# Altium schematic symbol library Resistor - Surface Mount - 0201.SchLib: 301 symbols (part 2 of 5)
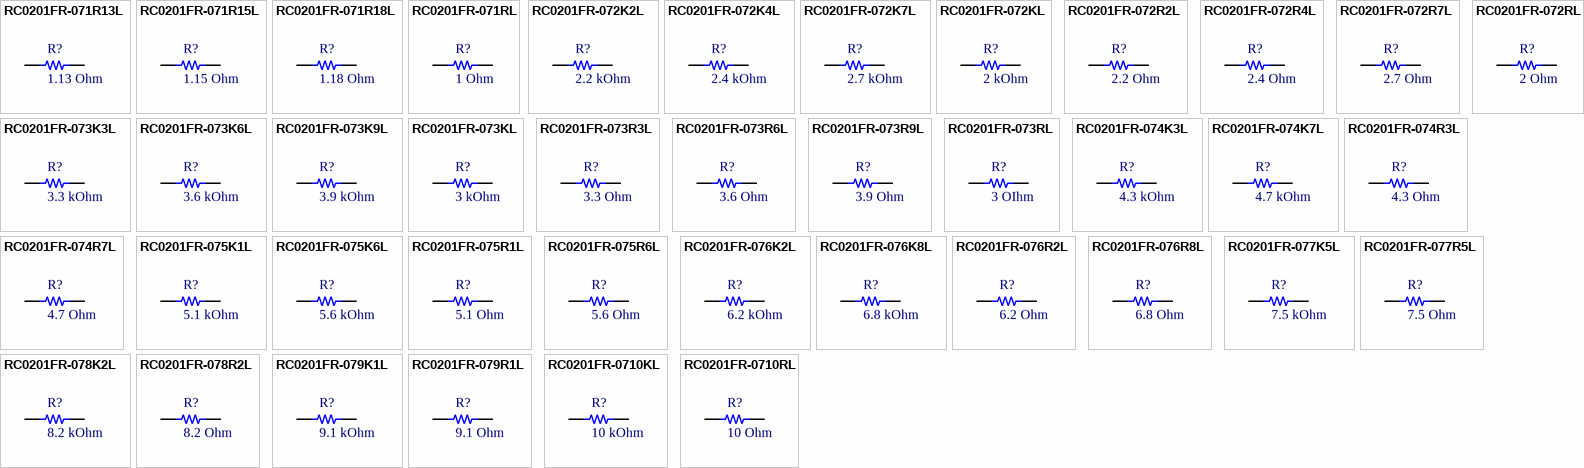
[diagram p8: symbols RC0201FR-071R13L to RC0201FR-0710RL]

## RC0201FR-071RL
designator R?, comment 1 Ohm
RES 1 OHM 1% 1/20W 0201; Manufacturer: Yageo; Part Number: RC0201FR-071RL; Power (Watt): 50mW; Value: 1 Ohm; Package: 0201 (0603 Metric); Tolerance: ±1%; Operating Temperature: -55℃~+125℃; ComponentLink1Description: Datasheet; ComponentLink1URL: https://www.yageo.com/upload/media/product/products/datasheet/rchip/PYu-RC_Group_51_RoHS_L_12.pdf; ComponentLink2Description: Digikey link; ComponentLink2URL: https://www.digikey.com/en/products/detail/yageo/RC0201FR-071RL/5917066?s=N4IgTCBcDaIEoGEAMYkEYBicC0SDsacAMiALoC%2BQA; ComponentLink3Description: LCSC link; ComponentLink3URL: https://lcsc.com/product-detail/Chip-Resistor-Surface-Mount_YAGEO-RC0201FR-071RL_C469665.html?s_z=n_1R%25200201%2520resistor%2520yageo; Supplier 1: Digikey; Supplier Part Number 1: YAG3368CT-ND
footprint R0201
footprint R0201
pins: 1, 2

## RC0201FR-072K2L
designator R?, comment 2.2 kOhm
RES 2.2K OHM 1% 1/20W 0201; Manufacturer: Yageo; Part Number: RC0201FR-072K2L; Power (Watt): 0.05W; ComponentLink1Description: Datasheet; ComponentLink1URL: https://www.yageo.com/upload/media/product/products/datasheet/rchip/PYu-RC_Group_51_RoHS_L_12.pdf; ComponentLink2Description: Digikey link; ComponentLink2URL: https://www.digikey.com/en/products/detail/yageo/RC0201FR-072K2L/5280432; ComponentLink3Description: LCSC link; ComponentLink3URL: https://lcsc.com/product-detail/Chip-Resistor-Surface-Mount_YAGEO-RC0201FR-072K2L_C142018.html?s_z=n_RC0201FR-072K2L; Value: 2.2 kOhm; Package: 0201 (0603 Metric); Tolerance: ±1%; Operating Temperature: -55°C ~ 125°C; Supplier 1: Future Electronics; Supplier Part Number 1: 3937737
footprint R0201
pins: 1, 2

## RC0201FR-072K4L
designator R?, comment 2.4 kOhm
RES 2.4K OHM 1% 1/20W 0201; Manufacturer: Yageo; Part Number: RC0201FR-072K4L; Power (Watt): 0.05W; ComponentLink1Description: Datasheet; ComponentLink1URL: https://www.yageo.com/upload/media/product/products/datasheet/rchip/PYu-RC_Group_51_RoHS_L_12.pdf; ComponentLink2Description: Digikey link; ComponentLink2URL: https://www.digikey.com/en/products/detail/yageo/RC0201FR-072K4L/5280436; ComponentLink3Description: LCSC link; ComponentLink3URL: https://lcsc.com/product-detail/Chip-Resistor-Surface-Mount_YAGEO-RC0201FR-072K4L_C155738.html?s_z=n_RC0201FR-072K4L; Value: 2.4 kOhm; Package: 0201 (0603 Metric); Tolerance: ±1%; Operating Temperature: -55°C ~ 125°C; Supplier 1: Digikey; Supplier Part Number 1: YAG2576CT-ND
footprint R0201
pins: 1, 2

## RC0201FR-072K7L
designator R?, comment 2.7 kOhm
RES 2.7K OHM 1% 1/20W 0201; Manufacturer: Yageo; Part Number: RC0201FR-072K7L; Power (Watt): 0.05W; ComponentLink1Description: Datasheet; ComponentLink1URL: https://www.yageo.com/upload/media/product/products/datasheet/rchip/PYu-RC_Group_51_RoHS_L_12.pdf; ComponentLink2Description: Digikey link; ComponentLink2URL: https://www.digikey.com/en/products/detail/yageo/RC0201FR-072K7L/5280441; ComponentLink3Description: LCSC link; ComponentLink3URL: https://lcsc.com/product-detail/Chip-Resistor-Surface-Mount_YAGEO-RC0201FR-072K7L_C273271.html?s_z=n_RC0201FR-072K7L; Value: 2.7 kOhm; Package: 0201 (0603 Metric); Tolerance: ±1%; Operating Temperature: -55°C ~ 125°C; Supplier 1: Digikey; Supplier Part Number 1: YAG2581CT-ND
footprint R0201
pins: 1, 2

## RC0201FR-072KL
designator R?, comment 2 kOhm
RES 2K OHM 1% 1/20W 0201; Manufacturer: Yageo; Part Number: RC0201FR-072KL; Power (Watt): 0.05W; ComponentLink1Description: Datasheet; ComponentLink1URL: https://www.yageo.com/upload/media/product/products/datasheet/rchip/PYu-RC_Group_51_RoHS_L_12.pdf; ComponentLink2Description: Digikey link; ComponentLink2URL: https://www.digikey.com/en/products/detail/yageo/RC0201FR-072KL/3202400; ComponentLink3Description: LCSC link; ComponentLink3URL: https://lcsc.com/product-detail/Chip-Resistor-Surface-Mount_YAGEO-RC0201FR-072KL_C327392.html?s_z=n_RC0201FR-072KL; Value: 2 kOhm; Package: 0201 (0603 Metric); Tolerance: ±1%; Operating Temperature: -55°C ~ 125°C; Supplier 1: Future Electronics; Supplier Part Number 1: 7667397
footprint R0201
pins: 1, 2

## RC0201FR-072R2L
designator R?, comment 2.2 Ohm
RES 2.2 OHM 1% 1/20W 0201; Manufacturer: Yageo; Part Number: RC0201FR-072R2L; Power (Watt): 0.05W; ComponentLink1Description: Datasheet; ComponentLink1URL: https://www.yageo.com/upload/media/product/products/datasheet/rchip/PYu-RC_Group_51_RoHS_L_12.pdf; ComponentLink2Description: Digikey link; ComponentLink2URL: https://www.digikey.com/en/products/detail/yageo/RC0201FR-072R2L/5917076; ComponentLink3Description: LCSC link; ComponentLink3URL: https://lcsc.com/product-detail/Chip-Resistor-Surface-Mount_YAGEO-RC0201FR-072R2L_C138154.html?s_z=n_RC0201FR-072R2L; Value: 2.2 Ohm; Package: 0201 (0603 Metric); Tolerance: ±1%; Operating Temperature: -55°C ~ 125°C; Supplier 1: Future Electronics; Supplier Part Number 1: 2107899
footprint R0201
pins: 1, 2

## RC0201FR-072R4L
designator R?, comment 2.4 Ohm
RES 2.4 OHM 1% 1/20W 0201; Manufacturer: Yageo; Part Number: RC0201FR-072R4L; Power (Watt): 0.05W; ComponentLink1Description: Datasheet; ComponentLink1URL: https://www.yageo.com/upload/media/product/products/datasheet/rchip/PYu-RC_Group_51_RoHS_L_12.pdf; ComponentLink2Description: Digikey link; ComponentLink2URL: https://www.digikey.com/en/products/detail/yageo/RC0201FR-072R4L/5917077; ComponentLink3Description: LCSC link; ComponentLink3URL: *; Value: 2.4 Ohm; Package: 0201 (0603 Metric); Tolerance: ±1%; Operating Temperature: -55°C ~ 125°C; Supplier 1: Digikey; Supplier Part Number 1: RC0201FR-072R4L-ND
footprint R0201
pins: 1, 2

## RC0201FR-072R7L
designator R?, comment 2.7 Ohm
RES 2.7 OHM 1% 1/20W 0201; Manufacturer: Yageo; Part Number: RC0201FR-072R7L; Power (Watt): 0.05W; ComponentLink1Description: Datasheet; ComponentLink1URL: https://www.yageo.com/upload/media/product/products/datasheet/rchip/PYu-RC_Group_51_RoHS_L_12.pdf; ComponentLink2Description: Digikey link; ComponentLink2URL: https://www.digikey.com/en/products/detail/yageo/RC0201FR-072R7L/5917079; ComponentLink3Description: LCSC link; ComponentLink3URL: https://lcsc.com/product-detail/Chip-Resistor-Surface-Mount_YAGEO-RC0201FR-072R7L_C474594.html?s_z=n_RC0201FR-072R7L; Value: 2.7 Ohm; Package: 0201 (0603 Metric); Tolerance: ±1%; Operating Temperature: -55°C ~ 125°C; Supplier 1: Digikey; Supplier Part Number 1: 13-RC0201FR-072R7LCT-ND
footprint R0201
pins: 1, 2

## RC0201FR-072RL
designator R?, comment 2 Ohm
RES 2 OHM 1% 1/20W 0201; Manufacturer: Yageo; Part Number: RC0201FR-072RL; Power (Watt): 0.05W; ComponentLink1Description: Datasheet; ComponentLink1URL: https://www.yageo.com/upload/media/product/products/datasheet/rchip/PYu-RC_Group_51_RoHS_L_12.pdf; ComponentLink2Description: Digikey link; ComponentLink2URL: https://www.digikey.com/en/products/detail/yageo/RC0201FR-072RL/5917080; ComponentLink3Description: LCSC link; ComponentLink3URL: https://lcsc.com/product-detail/Chip-Resistor-Surface-Mount_YAGEO-RC0201FR-072RL_C327197.html?s_z=n_RC0201FR-072RL; Value: 2 Ohm; Package: 0201 (0603 Metric); Tolerance: ±1%; Operating Temperature: -55°C ~ 125°C; Supplier 1: Avnet; Supplier Part Number 1: 49AK1024
footprint R0201
pins: 1, 2

## RC0201FR-073K3L
designator R?, comment 3.3 kOhm
RES 3.3K OHM 1% 1/20W 0201; Manufacturer: Yageo; Part Number: RC0201FR-073K3L; Power (Watt): 0.05W; ComponentLink1Description: Datasheet; ComponentLink1URL: https://www.yageo.com/upload/media/product/products/datasheet/rchip/PYu-RC_Group_51_RoHS_L_12.pdf; ComponentLink2Description: Digikey link; ComponentLink2URL: https://www.digikey.com/en/products/detail/yageo/RC0201FR-073K3L/3202407; ComponentLink3Description: LCSC link; ComponentLink3URL: https://lcsc.com/product-detail/Chip-Resistor-Surface-Mount_YAGEO-RC0201FR-073K3L_C274874.html?s_z=n_RC0201FR-073K3L; Value: 3.3 kOhm; Package: 0201 (0603 Metric); Tolerance: ±1%; Operating Temperature: -55°C ~ 125°C; Supplier 1: Digikey; Supplier Part Number 1: YAG2285CT-ND
footprint R0201
pins: 1, 2

## RC0201FR-073K6L
designator R?, comment 3.6 kOhm
RES 3.6K OHM 1% 1/20W 0201; Manufacturer: Yageo; Part Number: RC0201FR-073K6L; Power (Watt): 0.05W; ComponentLink1Description: Datasheet; ComponentLink1URL: https://www.yageo.com/upload/media/product/products/datasheet/rchip/PYu-RC_Group_51_RoHS_L_12.pdf; ComponentLink2Description: Digikey link; ComponentLink2URL: https://www.digikey.com/en/products/detail/yageo/RC0201FR-073K6L/5280511; ComponentLink3Description: LCSC link; ComponentLink3URL: https://lcsc.com/product-detail/Chip-Resistor-Surface-Mount_YAGEO-RC0201FR-073K6L_C327389.html?s_z=n_RC0201FR-073K6L; Value: 3.6 kOhm; Package: 0201 (0603 Metric); Tolerance: ±1%; Operating Temperature: -55°C ~ 125°C; Supplier 1: Digikey; Supplier Part Number 1: YAG2651CT-ND
footprint R0201
pins: 1, 2

## RC0201FR-073K9L
designator R?, comment 3.9 kOhm
RES 3.9K OHM 1% 1/20W 0201; Manufacturer: Yageo; Part Number: RC0201FR-073K9L; Power (Watt): 0.05W; ComponentLink1Description: Datasheet; ComponentLink1URL: https://www.yageo.com/upload/media/product/products/datasheet/rchip/PYu-RC_Group_51_RoHS_L_12.pdf; ComponentLink2Description: Digikey link; ComponentLink2URL: https://www.digikey.com/en/products/detail/yageo/RC0201FR-073K9L/5280515; ComponentLink3Description: LCSC link; ComponentLink3URL: https://lcsc.com/product-detail/Chip-Resistor-Surface-Mount_YAGEO-RC0201FR-073K9L_C273280.html?s_z=n_RC0201FR-073K9L; Value: 3.9 kOhm; Package: 0201 (0603 Metric); Tolerance: ±1%; Operating Temperature: -55°C ~ 125°C; Supplier 1: Future Electronics; Supplier Part Number 1: 8391229
footprint R0201
pins: 1, 2

## RC0201FR-073KL
designator R?, comment 3 kOhm
RES 3K OHM 1% 1/20W 0201; Manufacturer: Yageo; Part Number: RC0201FR-073KL; Power (Watt): 0.05W; ComponentLink1Description: Datasheet; ComponentLink1URL: https://www.yageo.com/upload/media/product/products/datasheet/rchip/PYu-RC_Group_51_RoHS_L_12.pdf; ComponentLink2Description: Digikey link; ComponentLink2URL: https://www.digikey.com/en/products/detail/yageo/RC0201FR-073KL/5280516; ComponentLink3Description: LCSC link; ComponentLink3URL: https://lcsc.com/product-detail/Chip-Resistor-Surface-Mount_YAGEO-RC0201FR-073KL_C142016.html?s_z=n_RC0201FR-073KL; Value: 3 kOhm; Package: 0201 (0603 Metric); Tolerance: ±1%; Operating Temperature: -55°C ~ 125°C; Supplier 1: Digikey; Supplier Part Number 1: YAG2656CT-ND
footprint R0201
pins: 1, 2

## RC0201FR-073R3L
designator R?, comment 3.3 Ohm
RES 3.3 OHM 1% 1/20W 0201; Manufacturer: Yageo; Part Number: RC0201FR-073R3L; Power (Watt): 0.05W; ComponentLink1Description: Datasheet; ComponentLink1URL: https://www.yageo.com/upload/media/product/products/datasheet/rchip/PYu-RC_Group_51_RoHS_L_12.pdf; ComponentLink2Description: Digikey link; ComponentLink2URL: https://www.digikey.com/en/products/detail/yageo/RC0201FR-073R3L/5917089; ComponentLink3Description: LCSC link; ComponentLink3URL: https://lcsc.com/product-detail/Chip-Resistor-Surface-Mount_YAGEO-RC0201FR-073R3L_C474657.html?s_z=n_RC0201FR-073R3L; Value: 3.3 Ohm; Package: 0201 (0603 Metric); Tolerance: ±1%; Operating Temperature: -55°C ~ 125°C; Supplier 1: Digikey; Supplier Part Number 1: 13-RC0201FR-073R3LCT-ND
footprint R0201
pins: 1, 2

## RC0201FR-073R6L
designator R?, comment 3.6 Ohm
RES 3.6 OHM 1% 1/20W 0201; Manufacturer: Yageo; Part Number: RC0201FR-073R6L; Power (Watt): 0.05W; ComponentLink1Description: Datasheet; ComponentLink1URL: https://www.yageo.com/upload/media/product/products/datasheet/rchip/PYu-RC_Group_51_RoHS_L_12.pdf; ComponentLink2Description: Digikey link; ComponentLink2URL: https://www.digikey.com/en/products/detail/yageo/RC0201FR-073R6L/5917090; ComponentLink3Description: LCSC link; ComponentLink3URL: https://lcsc.com/product-detail/Chip-Resistor-Surface-Mount_YAGEO-RC0201FR-073R6L_C474663.html?s_z=n_RC0201FR-073R6L; Value: 3.6 Ohm; Package: 0201 (0603 Metric); Tolerance: ±1%; Operating Temperature: -55°C ~ 125°C; Supplier 1: Digikey; Supplier Part Number 1: RC0201FR-073R6L-ND
footprint R0201
pins: 1, 2

## RC0201FR-073R9L
designator R?, comment 3.9 Ohm
RES 3.9 OHM 1% 1/20W 0201; Manufacturer: Yageo; Part Number: RC0201FR-073R9L; Power (Watt): 0.05W; ComponentLink1Description: Datasheet; ComponentLink1URL: https://www.yageo.com/upload/media/product/products/datasheet/rchip/PYu-RC_Group_51_RoHS_L_12.pdf; ComponentLink2Description: Digikey link; ComponentLink2URL: https://www.digikey.com/en/products/detail/yageo/RC0201FR-073R9L/5917092; ComponentLink3Description: LCSC link; ComponentLink3URL: https://lcsc.com/product-detail/Chip-Resistor-Surface-Mount_YAGEO-RC0201FR-073R9L_C474419.html?s_z=n_RC0201FR-073R9L; Value: 3.9 Ohm; Package: 0201 (0603 Metric); Tolerance: ±1%; Operating Temperature: -55°C ~ 125°C; Supplier 1: Future Electronics; Supplier Part Number 1: 8132538
footprint R0201
pins: 1, 2

## RC0201FR-073RL
designator R?, comment 3 OIhm
RES 3 OHM 1% 1/20W 0201; Manufacturer: Yageo; Part Number: RC0201FR-073RL; Power (Watt): 0.05W; ComponentLink1Description: Datasheet; ComponentLink1URL: https://www.yageo.com/upload/media/product/products/datasheet/rchip/PYu-RC_Group_51_RoHS_L_12.pdf; ComponentLink2Description: Digikey link; ComponentLink2URL: https://www.digikey.com/en/products/detail/yageo/RC0201FR-073RL/5917093; ComponentLink3Description: LCSC link; ComponentLink3URL: https://lcsc.com/product-detail/Chip-Resistor-Surface-Mount_YAGEO-RC0201FR-073RL_C309536.html?s_z=n_RC0201FR-073RL; Value: 3 OIhm; Package: 0201 (0603 Metric); Tolerance: ±1%; Operating Temperature: -55°C ~ 125°C; Supplier 1: Digikey; Supplier Part Number 1: 13-RC0201FR-073RLCT-ND
footprint R0201
pins: 1, 2

## RC0201FR-074K3L
designator R?, comment 4.3 kOhm
RES 4.3K OHM 1% 1/20W 0201; Manufacturer: Yageo; Part Number: RC0201FR-074K3L; Power (Watt): 0.05W; ComponentLink1Description: Datasheet; ComponentLink1URL: https://www.yageo.com/upload/media/product/products/datasheet/rchip/PYu-RC_Group_51_RoHS_L_12.pdf; ComponentLink2Description: Digikey link; ComponentLink2URL: https://www.digikey.com/en/products/detail/yageo/RC0201FR-074K3L/5280566; ComponentLink3Description: LCSC link; ComponentLink3URL: https://lcsc.com/product-detail/Chip-Resistor-Surface-Mount_YAGEO-RC0201FR-074K3L_C295804.html?s_z=n_RC0201FR-074K3L; Value: 4.3 kOhm; Package: 0201 (0603 Metric); Tolerance: ±1%; Operating Temperature: -55°C ~ 125°C; Supplier 1: Future Electronics; Supplier Part Number 1: 9069571
footprint R0201
pins: 1, 2

## RC0201FR-074K7L
designator R?, comment 4.7 kOhm
RES 4.7K OHM 1% 1/20W 0201; Manufacturer: Yageo; Part Number: RC0201FR-074K7L; Power (Watt): 0.05W; ComponentLink1Description: Datasheet; ComponentLink1URL: https://www.yageo.com/upload/media/product/products/datasheet/rchip/PYu-RC_Group_51_RoHS_L_12.pdf; ComponentLink2Description: Digikey link; ComponentLink2URL: https://www.digikey.com/en/products/detail/yageo/RC0201FR-074K7L/1948894; ComponentLink3Description: LCSC link; ComponentLink3URL: https://lcsc.com/product-detail/Chip-Resistor-Surface-Mount_YAGEO-RC0201FR-074K7L_C138135.html?s_z=n_RC0201FR-074K7L; Value: 4.7 kOhm; Package: 0201 (0603 Metric); Tolerance: ±1%; Operating Temperature: -55°C ~ 125°C; Supplier 1: Digikey; Supplier Part Number 1: 311-4.70KMCT-ND
footprint R0201
pins: 1, 2

## RC0201FR-074R3L
designator R?, comment 4.3 Ohm
RES 4.3 OHM 1% 1/20W 0201; Manufacturer: Yageo; Part Number: RC0201FR-074R3L; Power (Watt): 0.05W; ComponentLink1Description: Datasheet; ComponentLink1URL: https://www.yageo.com/upload/media/product/products/datasheet/rchip/PYu-RC_Group_51_RoHS_L_12.pdf; ComponentLink2Description: Digikey link; ComponentLink2URL: https://www.digikey.com/en/products/detail/yageo/RC0201FR-074R3L/5917100; ComponentLink3Description: LCSC link; ComponentLink3URL: https://lcsc.com/product-detail/Chip-Resistor-Surface-Mount_YAGEO-RC0201FR-074R3L_C474711.html?s_z=n_RC0201FR-074R3L; Value: 4.3 Ohm; Package: 0201 (0603 Metric); Tolerance: ±1%; Operating Temperature: -55°C ~ 125°C; Supplier 1: Digikey; Supplier Part Number 1: 13-RC0201FR-074R3LCT-ND
footprint R0201
pins: 1, 2

## RC0201FR-074R7L
designator R?, comment 4.7 Ohm
RES 4.7 OHM 1% 1/20W 0201; Manufacturer: Yageo; Part Number: RC0201FR-074R7L; Power (Watt): 0.05W; ComponentLink1Description: Datasheet; ComponentLink1URL: https://www.yageo.com/upload/media/product/products/datasheet/rchip/PYu-RC_Group_51_RoHS_L_12.pdf; ComponentLink2Description: Digikey link; ComponentLink2URL: https://www.digikey.com/en/products/detail/yageo/RC0201FR-074R7L/5917102; ComponentLink3Description: LCSC link; ComponentLink3URL: https://lcsc.com/product-detail/Chip-Resistor-Surface-Mount_YAGEO-RC0201FR-074R7L_C474426.html?s_z=n_RC0201FR-074R7L; Value: 4.7 Ohm; Package: 0201 (0603 Metric); Tolerance: ±1%; Operating Temperature: -55°C ~ 125°C; Supplier 1: Future Electronics; Supplier Part Number 1: 3120431
footprint R0201
pins: 1, 2

## RC0201FR-075K1L
designator R?, comment 5.1 kOhm
RES 5.1K OHM 1% 1/20W 0201; Manufacturer: Yageo; Part Number: RC0201FR-075K1L; Power (Watt): 0.05W; ComponentLink1Description: Datasheet; ComponentLink1URL: https://www.yageo.com/upload/media/product/products/datasheet/rchip/PYu-RC_Group_51_RoHS_L_12.pdf; ComponentLink2Description: Digikey link; ComponentLink2URL: https://www.digikey.com/en/products/detail/yageo/RC0201FR-075K1L/5280601; ComponentLink3Description: LCSC link; ComponentLink3URL: https://lcsc.com/product-detail/Chip-Resistor-Surface-Mount_YAGEO-RC0201FR-075K1L_C274341.html?s_z=n_RC0201FR-075K1L; Value: 5.1 kOhm; Package: 0201 (0603 Metric); Tolerance: ±1%; Operating Temperature: -55°C ~ 125°C; Supplier 1: Future Electronics; Supplier Part Number 1: 9072847
footprint R0201
pins: 1, 2

## RC0201FR-075K6L
designator R?, comment 5.6 kOhm
RES 5.6K OHM 1% 1/20W 0201; Manufacturer: Yageo; Part Number: RC0201FR-075K6L; Power (Watt): 0.05W; ComponentLink1Description: Datasheet; ComponentLink1URL: https://www.yageo.com/upload/media/product/products/datasheet/rchip/PYu-RC_Group_51_RoHS_L_12.pdf; ComponentLink2Description: Digikey link; ComponentLink2URL: https://www.digikey.com/en/products/detail/yageo/RC0201FR-075K6L/3202417; ComponentLink3Description: LCSC link; ComponentLink3URL: https://lcsc.com/product-detail/Chip-Resistor-Surface-Mount_YAGEO-RC0201FR-075K6L_C138132.html?s_z=n_RC0201FR-075K6L; Value: 5.6 kOhm; Package: 0201 (0603 Metric); Tolerance: ±1%; Operating Temperature: -55°C ~ 125°C; Supplier 1: Future Electronics; Supplier Part Number 1: 1079050
footprint R0201
pins: 1, 2

## RC0201FR-075R1L
designator R?, comment 5.1 Ohm
RES 5.1 OHM 1% 1/20W 0201; Manufacturer: Yageo; Part Number: RC0201FR-075R1L; Power (Watt): 0.05W; ComponentLink1Description: Datasheet; ComponentLink1URL: https://www.yageo.com/upload/media/product/products/datasheet/rchip/PYu-RC_Group_51_RoHS_L_12.pdf; ComponentLink2Description: Digikey link; ComponentLink2URL: https://www.digikey.com/en/products/detail/yageo/RC0201FR-075R1L/5917112; ComponentLink3Description: LCSC link; ComponentLink3URL: https://lcsc.com/product-detail/Chip-Resistor-Surface-Mount_YAGEO-RC0201FR-075R1L_C309537.html?s_z=n_RC0201FR-075R1L; Value: 5.1 Ohm; Package: 0201 (0603 Metric); Tolerance: ±1%; Operating Temperature: -55°C ~ 125°C; Supplier 1: Digikey; Supplier Part Number 1: 13-RC0201FR-075R1LCT-ND
footprint R0201
pins: 1, 2

## RC0201FR-075R6L
designator R?, comment 5.6 Ohm
RES 5.6 OHM 1% 1/20W 0201; Manufacturer: Yageo; Part Number: RC0201FR-075R6L; Power (Watt): 0.05W; ComponentLink1Description: Datasheet; ComponentLink1URL: https://www.yageo.com/upload/media/product/products/datasheet/rchip/PYu-RC_Group_51_RoHS_L_12.pdf; ComponentLink2Description: Digikey link; ComponentLink2URL: https://www.digikey.com/en/products/detail/yageo/RC0201FR-075R6L/5917115; ComponentLink3Description: LCSC link; ComponentLink3URL: https://lcsc.com/product-detail/Chip-Resistor-Surface-Mount_YAGEO-RC0201FR-075R6L_C155465.html?s_z=n_RC0201FR-075R6L; Value: 5.6 Ohm; Package: 0201 (0603 Metric); Tolerance: ±1%; Operating Temperature: -55°C ~ 125°C; Supplier 1: Digikey; Supplier Part Number 1: 13-RC0201FR-075R6LCT-ND
footprint R0201
pins: 1, 2

## RC0201FR-076K2L
designator R?, comment 6.2 kOhm
RES 6.2K OHM 1% 1/20W 0201; Manufacturer: Yageo; Part Number: RC0201FR-076K2L; Power (Watt): 0.05W; ComponentLink1Description: Datasheet; ComponentLink1URL: https://www.yageo.com/upload/media/product/products/datasheet/rchip/PYu-RC_Group_51_RoHS_L_12.pdf; ComponentLink2Description: Digikey link; ComponentLink2URL: https://www.digikey.com/en/products/detail/yageo/RC0201FR-076K2L/5280640; ComponentLink3Description: LCSC link; ComponentLink3URL: https://lcsc.com/product-detail/Chip-Resistor-Surface-Mount_YAGEO-RC0201FR-076K2L_C295814.html?s_z=n_RC0201FR-076K2L; Value: 6.2 kOhm; Package: 0201 (0603 Metric); Tolerance: ±1%; Operating Temperature: -55°C ~ 125°C; Supplier 1: Digikey; Supplier Part Number 1: YAG2780CT-ND
footprint R0201
pins: 1, 2

## RC0201FR-076K8L
designator R?, comment 6.8 kOhm
RES 6.8K OHM 1% 1/20W 0201; Manufacturer: Yageo; Part Number: RC0201FR-076K8L; Power (Watt): 0.05W; ComponentLink1Description: Datasheet; ComponentLink1URL: https://www.yageo.com/upload/media/product/products/datasheet/rchip/PYu-RC_Group_51_RoHS_L_12.pdf; ComponentLink2Description: Digikey link; ComponentLink2URL: https://www.digikey.com/en/products/detail/yageo/RC0201FR-076K8L/3202422; ComponentLink3Description: LCSC link; ComponentLink3URL: https://lcsc.com/product-detail/Chip-Resistor-Surface-Mount_YAGEO-RC0201FR-076K8L_C274877.html?s_z=n_RC0201FR-076K8L; Value: 6.8 kOhm; Package: 0201 (0603 Metric); Tolerance: ±1%; Operating Temperature: -55°C ~ 125°C; Supplier 1: Future Electronics; Supplier Part Number 1: 5265012
footprint R0201
pins: 1, 2

## RC0201FR-076R2L
designator R?, comment 6.2 Ohm
RES 6.2 OHM 1% 1/20W 0201; Manufacturer: Yageo; Part Number: RC0201FR-076R2L; Power (Watt): 0.05W; ComponentLink1Description: Datasheet; ComponentLink1URL: https://www.yageo.com/upload/media/product/products/datasheet/rchip/PYu-RC_Group_51_RoHS_L_12.pdf; ComponentLink2Description: Digikey link; ComponentLink2URL: https://www.digikey.com/en/products/detail/yageo/RC0201FR-076R2L/5917121; ComponentLink3Description: LCSC link; Value: 6.2 Ohm; Package: 0201 (0603 Metric); Tolerance: ±1%; Operating Temperature: -55°C ~ 125°C; Supplier 1: Arrow Electronics; Supplier Part Number 1: RC0201FR-076R2L
footprint R0201
pins: 1, 2

## RC0201FR-076R8L
designator R?, comment 6.8 Ohm
RES 6.8 OHM 1% 1/20W 0201; Manufacturer: Yageo; Part Number: RC0201FR-076R8L; Power (Watt): 0.05W; ComponentLink1Description: Datasheet; ComponentLink1URL: https://www.yageo.com/upload/media/product/products/datasheet/rchip/PYu-RC_Group_51_RoHS_L_12.pdf; ComponentLink2Description: Digikey link; ComponentLink2URL: https://www.digikey.com/en/products/detail/yageo/RC0201FR-076R8L/5917124; ComponentLink3Description: LCSC link; ComponentLink3URL: https://lcsc.com/product-detail/Chip-Resistor-Surface-Mount_YAGEO-RC0201FR-076R8L_C138125.html?s_z=n_RC0201FR-076R8L; Value: 6.8 Ohm; Package: 0201 (0603 Metric); Tolerance: ±1%; Operating Temperature: -55°C ~ 125°C; Supplier 1: Future Electronics; Supplier Part Number 1: 9155897
footprint R0201
pins: 1, 2

## RC0201FR-077K5L
designator R?, comment 7.5 kOhm
RES 7.5K OHM 1% 1/20W 0201; Manufacturer: Yageo; Part Number: RC0201FR-077K5L; Power (Watt): 0.05W; ComponentLink1Description: Datasheet; ComponentLink1URL: https://www.yageo.com/upload/media/product/products/datasheet/rchip/PYu-RC_Group_51_RoHS_L_12.pdf; ComponentLink2Description: Digikey link; ComponentLink2URL: https://www.digikey.com/en/products/detail/yageo/RC0201FR-077K5L/5917126; ComponentLink3Description: LCSC link; ComponentLink3URL: https://lcsc.com/product-detail/Chip-Resistor-Surface-Mount_YAGEO-RC0201FR-077K5L_C474437.html?s_z=n_RC0201FR-077K5L; Value: 7.5 kOhm; Package: 0201 (0603 Metric); Tolerance: ±1%; Operating Temperature: -55°C ~ 125°C; Supplier 1: Digikey; Supplier Part Number 1: 13-RC0201FR-077K5LCT-ND
footprint R0201
pins: 1, 2

## RC0201FR-077R5L
designator R?, comment 7.5 Ohm
RES 7.5 OHM 1% 1/20W 0201; Manufacturer: Yageo; Part Number: RC0201FR-077R5L; Power (Watt): 0.05W; ComponentLink1Description: Datasheet; ComponentLink1URL: https://www.yageo.com/upload/media/product/products/datasheet/rchip/PYu-RC_Group_51_RoHS_L_12.pdf; ComponentLink2Description: Digikey link; ComponentLink2URL: https://www.digikey.com/en/products/detail/yageo/RC0201FR-077R5L/5917129; ComponentLink3Description: LCSC link; ComponentLink3URL: *; Value: 7.5 Ohm; Package: 0201 (0603 Metric); Tolerance: ±1%; Operating Temperature: -55°C ~ 125°C; Supplier 1: Digikey; Supplier Part Number 1: 13-RC0201FR-077R5LCT-ND
footprint R0201
pins: 1, 2

## RC0201FR-078K2L
designator R?, comment 8.2 kOhm
RES 8.2K OHM 1% 1/20W 0201; Manufacturer: Yageo; Part Number: RC0201FR-078K2L; Power (Watt): 0.05W; ComponentLink1Description: Datasheet; ComponentLink1URL: https://www.yageo.com/upload/media/product/products/datasheet/rchip/PYu-RC_Group_51_RoHS_L_12.pdf; ComponentLink2Description: Digikey link; ComponentLink2URL: https://www.digikey.com/en/products/detail/yageo/RC0201FR-078K2L/3202425; ComponentLink3Description: LCSC link; ComponentLink3URL: https://lcsc.com/product-detail/Chip-Resistor-Surface-Mount_YAGEO-RC0201FR-078K2L_C274879.html?s_z=n_RC0201FR-078K2L; Value: 8.2 kOhm; Package: 0201 (0603 Metric); Tolerance: ±1%; Operating Temperature: -55°C ~ 125°C; Supplier 1: Digikey; Supplier Part Number 1: YAG2353CT-ND
footprint R0201
pins: 1, 2

## RC0201FR-078R2L
designator R?, comment 8.2 Ohm
RES 8.2 OHM 1% 1/20W 0201; Manufacturer: Yageo; Part Number: RC0201FR-078R2L; Power (Watt): 0.05W; ComponentLink1Description: Datasheet; ComponentLink1URL: https://www.yageo.com/upload/media/product/products/datasheet/rchip/PYu-RC_Group_51_RoHS_L_12.pdf; ComponentLink2Description: Digikey link; ComponentLink2URL: https://www.digikey.com/en/products/detail/yageo/RC0201FR-078R2L/5917133; ComponentLink3Description: LCSC link; ComponentLink3URL: https://lcsc.com/product-detail/Chip-Resistor-Surface-Mount_YAGEO-RC0201FR-078R2L_C309538.html?s_z=n_RC0201FR-078R2L; Value: 8.2 Ohm; Package: 0201 (0603 Metric); Tolerance: ±1%; Operating Temperature: -55°C ~ 125°C; Supplier 1: Digikey; Supplier Part Number 1: 13-RC0201FR-078R2LCT-ND
footprint R0201
pins: 1, 2

## RC0201FR-079K1L
designator R?, comment 9.1 kOhm
RES 9.1K OHM 1% 1/20W 0201; Manufacturer: Yageo; Part Number: RC0201FR-079K1L; Power (Watt): 0.05W; ComponentLink1Description: Datasheet; ComponentLink1URL: https://www.yageo.com/upload/media/product/products/datasheet/rchip/PYu-RC_Group_51_RoHS_L_12.pdf; ComponentLink2Description: Digikey link; ComponentLink2URL: https://www.digikey.com/en/products/detail/yageo/RC0201FR-079K1L/5280717; ComponentLink3Description: LCSC link; ComponentLink3URL: https://lcsc.com/product-detail/Chip-Resistor-Surface-Mount_YAGEO-RC0201FR-079K1L_C295821.html?s_z=n_RC0201FR-079K1L; Value: 9.1 kOhm; Package: 0201 (0603 Metric); Tolerance: ±1%; Operating Temperature: -55°C ~ 125°C; Supplier 1: Digikey; Supplier Part Number 1: YAG2857CT-ND
footprint R0201
pins: 1, 2

## RC0201FR-079R1L
designator R?, comment 9.1 Ohm
RES 9.1 OHM 1% 1/20W 0201; Manufacturer: Yageo; Part Number: RC0201FR-079R1L; Power (Watt): 0.05W; ComponentLink1Description: Datasheet; ComponentLink1URL: https://www.yageo.com/upload/media/product/products/datasheet/rchip/PYu-RC_Group_51_RoHS_L_12.pdf; ComponentLink2Description: Digikey link; ComponentLink2URL: https://www.digikey.com/en/products/detail/yageo/RC0201FR-079R1L/5917137; ComponentLink3Description: LCSC link; ComponentLink3URL: https://lcsc.com/product-detail/Chip-Resistor-Surface-Mount_YAGEO-RC0201FR-079R1L_C295822.html?s_z=n_RC0201FR-079R1L; Value: 9.1 Ohm; Package: 0201 (0603 Metric); Tolerance: ±1%; Operating Temperature: -55°C ~ 125°C; Supplier 1: Digikey; Supplier Part Number 1: 13-RC0201FR-079R1LCT-ND
footprint R0201
pins: 1, 2

## RC0201FR-0710KL
designator R?, comment 10 kOhm
RES 10K OHM 1% 1/20W 0201; Manufacturer: Yageo; Part Number: RC0201FR-0710KL; Power (Watt): 0.05W; ComponentLink1Description: Datasheet; ComponentLink1URL: https://www.yageo.com/upload/media/product/products/datasheet/rchip/PYu-RC_Group_51_RoHS_L_12.pdf; ComponentLink2Description: Digikey link; ComponentLink2URL: https://www.digikey.com/en/products/detail/yageo/RC0201FR-0710KL/1948870; ComponentLink3Description: LCSC link; ComponentLink3URL: https://lcsc.com/product-detail/Chip-Resistor-Surface-Mount_YAGEO-RC0201FR-0710KL_C106225.html?s_z=n_RC0201FR-0710KL; Value: 10 kOhm; Package: 0201 (0603 Metric); Tolerance: ±1%; Operating Temperature: -55°C ~ 125°C; Supplier 1: Digikey; Supplier Part Number 1: 311-10.0KMDKR-ND
footprint R0201
pins: 1, 2

## RC0201FR-0710RL
designator R?, comment 10 Ohm
RES 10 OHM 1% 1/20W 0201; Manufacturer: Yageo; Part Number: RC0201FR-0710RL; Power (Watt): 0.05W; ComponentLink1Description: Datasheet; ComponentLink1URL: https://www.yageo.com/upload/media/product/products/datasheet/rchip/PYu-RC_Group_51_RoHS_L_12.pdf; ComponentLink2Description: Digikey link; ComponentLink2URL: https://www.digikey.com/en/products/detail/yageo/RC0201FR-0710RL/1948874; ComponentLink3Description: LCSC link; ComponentLink3URL: https://lcsc.com/product-detail/Chip-Resistor-Surface-Mount_YAGEO-RC0201FR-0710RL_C106226.html?s_z=n_RC0201FR-0710RL; Value: 10 Ohm; Package: 0201 (0603 Metric); Tolerance: ±1%; Operating Temperature: -55°C ~ 125°C; Supplier 1: Future Electronics; Supplier Part Number 1: 6009559
footprint R0201
pins: 1, 2

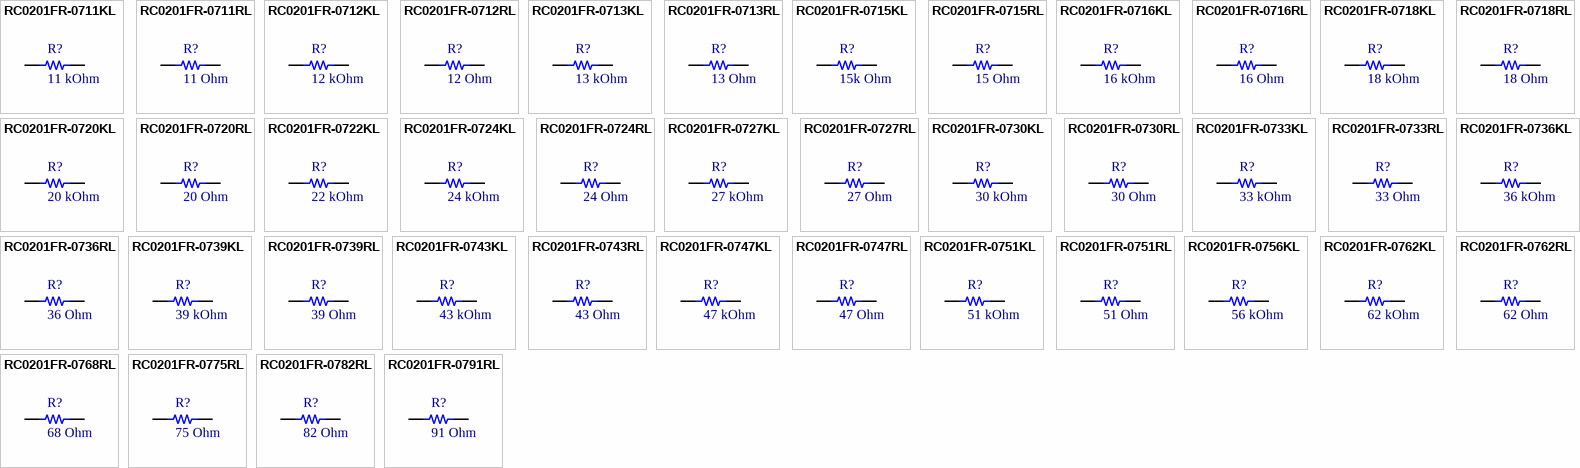
[diagram p3: symbols RC0201FR-0711KL to RC0201FR-0791RL]

## RC0201FR-0711KL
designator R?, comment 11 kOhm
RES 11K OHM 1% 1/20W 0201; Manufacturer: Yageo; Part Number: RC0201FR-0711KL; Power (Watt): 0.05W; ComponentLink1Description: Datasheet; ComponentLink1URL: https://www.yageo.com/upload/media/product/products/datasheet/rchip/PYu-RC_Group_51_RoHS_L_12.pdf; ComponentLink2Description: Digikey link; ComponentLink2URL: https://www.digikey.com/en/products/detail/yageo/RC0201FR-0711KL/3202383; ComponentLink3Description: LCSC link; ComponentLink3URL: https://lcsc.com/product-detail/Chip-Resistor-Surface-Mount_YAGEO-RC0201FR-0711KL_C273275.html?s_z=n_RC0201FR-0711KL; Value: 11 kOhm; Package: 0201 (0603 Metric); Tolerance: ±1%; Operating Temperature: -55°C ~ 125°C; Supplier 1: Digikey; Supplier Part Number 1: YAG2332CT-ND
footprint R0201
pins: 1, 2

## RC0201FR-0711RL
designator R?, comment 11 Ohm
RES 11 OHM 1% 1/20W 0201; Manufacturer: Yageo; Part Number: RC0201FR-0711RL; Power (Watt): 0.05W; ComponentLink1Description: Datasheet; ComponentLink1URL: https://www.yageo.com/upload/media/product/products/datasheet/rchip/PYu-RC_Group_51_RoHS_L_12.pdf; ComponentLink2Description: Digikey link; ComponentLink2URL: https://www.digikey.com/en/products/detail/yageo/RC0201FR-0711RL/5280252; ComponentLink3Description: LCSC link; ComponentLink3URL: https://lcsc.com/product-detail/Chip-Resistor-Surface-Mount_YAGEO-RC0201FR-0711RL_C295717.html?s_z=n_RC0201FR-0711RL; Value: 11 Ohm; Package: 0201 (0603 Metric); Tolerance: ±1%; Operating Temperature: -55°C ~ 125°C; Supplier 1: Digikey; Supplier Part Number 1: YAG2392CT-ND
footprint R0201
pins: 1, 2

## RC0201FR-0712KL
designator R?, comment 12 kOhm
RES 12K OHM 1% 1/20W 0201; Manufacturer: Yageo; Part Number: RC0201FR-0712KL; Power (Watt): 0.05W; ComponentLink1Description: Datasheet; ComponentLink1URL: https://www.yageo.com/upload/media/product/products/datasheet/rchip/PYu-RC_Group_51_RoHS_L_12.pdf; ComponentLink2Description: Digikey link; ComponentLink2URL: https://www.digikey.com/en/products/detail/yageo/RC0201FR-0712KL/1948886; ComponentLink3Description: LCSC link; ComponentLink3URL: https://lcsc.com/product-detail/Chip-Resistor-Surface-Mount_YAGEO-RC0201FR-0712KL_C295719.html?s_z=n_RC0201FR-0712KL; Value: 12 kOhm; Package: 0201 (0603 Metric); Tolerance: ±1%; Operating Temperature: -55°C ~ 125°C; Supplier 1: Future Electronics; Supplier Part Number 1: 4978375
footprint R0201
pins: 1, 2

## RC0201FR-0712RL
designator R?, comment 12 Ohm
RES 12 OHM 1% 1/20W 0201; Manufacturer: Yageo; Part Number: RC0201FR-0712RL; Power (Watt): 0.05W; ComponentLink1Description: Datasheet; ComponentLink1URL: https://www.yageo.com/upload/media/product/products/datasheet/rchip/PYu-RC_Group_51_RoHS_L_12.pdf; ComponentLink2Description: Digikey link; ComponentLink2URL: https://www.digikey.com/en/products/detail/yageo/RC0201FR-0712RL/1948890; ComponentLink3Description: LCSC link; ComponentLink3URL: https://lcsc.com/product-detail/Chip-Resistor-Surface-Mount_YAGEO-RC0201FR-0712RL_C155464.html?s_z=n_RC0201FR-0712RL; Value: 12 Ohm; Package: 0201 (0603 Metric); Tolerance: ±1%; Operating Temperature: -55°C ~ 125°C; Supplier 1: Digikey; Supplier Part Number 1: 311-12.0MCT-ND
footprint R0201
pins: 1, 2

## RC0201FR-0713KL
designator R?, comment 13 kOhm
RES 13K OHM 1% 1/20W 0201; Manufacturer: Yageo; Part Number: RC0201FR-0713KL; Power (Watt): 0.05W; ComponentLink1Description: Datasheet; ComponentLink1URL: https://www.yageo.com/upload/media/product/products/datasheet/rchip/PYu-RC_Group_51_RoHS_L_12.pdf; ComponentLink2Description: Digikey link; ComponentLink2URL: https://www.digikey.com/en/products/detail/yageo/RC0201FR-0713KL/5280261; ComponentLink3Description: LCSC link; ComponentLink3URL: https://lcsc.com/product-detail/Chip-Resistor-Surface-Mount_YAGEO-RC0201FR-0713KL_C295720.html?s_z=n_RC0201FR-0713KL; Value: 13 kOhm; Package: 0201 (0603 Metric); Tolerance: ±1%; Operating Temperature: -55°C ~ 125°C; Supplier 1: Digikey; Supplier Part Number 1: YAG2401CT-ND
footprint R0201
pins: 1, 2

## RC0201FR-0713RL
designator R?, comment 13 Ohm
RES 13 OHM 1% 1/20W 0201; Manufacturer: Yageo; Part Number: RC0201FR-0713RL; Power (Watt): 0.05W; ComponentLink1Description: Datasheet; ComponentLink1URL: https://www.yageo.com/upload/media/product/products/datasheet/rchip/PYu-RC_Group_51_RoHS_L_12.pdf; ComponentLink2Description: Digikey link; ComponentLink2URL: https://www.digikey.com/en/products/detail/yageo/RC0201FR-0713RL/5280264; ComponentLink3Description: LCSC link; ComponentLink3URL: https://lcsc.com/product-detail/Chip-Resistor-Surface-Mount_YAGEO-RC0201FR-0713RL_C295721.html?s_z=n_RC0201FR-0713RL; Value: 13 Ohm; Package: 0201 (0603 Metric); Tolerance: ±1%; Operating Temperature: -55°C ~ 125°C; Supplier 1: Digikey; Supplier Part Number 1: YAG2404CT-ND
footprint R0201
pins: 1, 2

## RC0201FR-0715KL
designator R?, comment 15k Ohm
RES 15K OHM 1% 1/20W 0201; Manufacturer: Yageo; Part Number: RC0201FR-0715KL; Power (Watt): 0.05W; ComponentLink1Description: Datasheet; ComponentLink1URL: https://www.yageo.com/upload/media/product/products/datasheet/rchip/PYu-RC_Group_51_RoHS_L_12.pdf; ComponentLink2Description: Digikey link; ComponentLink2URL: https://www.digikey.com/en/products/detail/yageo/RC0201FR-0715KL/5280283; ComponentLink3Description: LCSC link; ComponentLink3URL: https://lcsc.com/product-detail/Chip-Resistor-Surface-Mount_YAGEO-RC0201FR-0715KL_C295774.html?s_z=n_RC0201FR-0715KL; Value: 15k Ohm; Package: 0201 (0603 Metric); Tolerance: ±1%; Operating Temperature: -55°C ~ 125°C; Supplier 1: Future Electronics; Supplier Part Number 1: 9770686
footprint R0201
pins: 1, 2

## RC0201FR-0715RL
designator R?, comment 15 Ohm
RES 15 OHM 1% 1/20W 0201; Manufacturer: Yageo; Part Number: RC0201FR-0715RL; Power (Watt): 0.05W; ComponentLink1Description: Datasheet; ComponentLink1URL: https://www.yageo.com/upload/media/product/products/datasheet/rchip/PYu-RC_Group_51_RoHS_L_12.pdf; ComponentLink2Description: Digikey link; ComponentLink2URL: https://www.digikey.com/en/products/detail/yageo/RC0201FR-0715RL/1948891; ComponentLink3Description: LCSC link; ComponentLink3URL: https://lcsc.com/product-detail/Chip-Resistor-Surface-Mount_YAGEO-RC0201FR-0715RL_C138173.html?s_z=n_RC0201FR-0715RL; Value: 15 Ohm; Package: 0201 (0603 Metric); Tolerance: ±1%; Operating Temperature: -55°C ~ 125°C; Supplier 1: Future Electronics; Supplier Part Number 1: 1059581
footprint R0201
pins: 1, 2

## RC0201FR-0716KL
designator R?, comment 16 kOhm
RES 16K OHM 1% 1/20W 0201; Manufacturer: Yageo; Part Number: RC0201FR-0716KL; Power (Watt): 0.05W; ComponentLink1Description: Datasheet; ComponentLink1URL: https://www.yageo.com/upload/media/product/products/datasheet/rchip/PYu-RC_Group_51_RoHS_L_12.pdf; ComponentLink2Description: Digikey link; ComponentLink2URL: https://www.digikey.com/en/products/detail/yageo/RC0201FR-0716KL/5280297; ComponentLink3Description: LCSC link; ComponentLink3URL: https://lcsc.com/product-detail/Chip-Resistor-Surface-Mount_YAGEO-RC0201FR-0716KL_C295776.html?s_z=n_RC0201FR-0716KL; Value: 16 kOhm; Package: 0201 (0603 Metric); Tolerance: ±1%; Operating Temperature: -55°C ~ 125°C; Supplier 1: Digikey; Supplier Part Number 1: YAG2437CT-ND
footprint R0201
pins: 1, 2

## RC0201FR-0716RL
designator R?, comment 16 Ohm
RES 16 OHM 1% 1/20W 0201; Manufacturer: Yageo; Part Number: RC0201FR-0716RL; Power (Watt): 0.05W; ComponentLink1Description: Datasheet; ComponentLink1URL: https://www.yageo.com/upload/media/product/products/datasheet/rchip/PYu-RC_Group_51_RoHS_L_12.pdf; ComponentLink2Description: Digikey link; ComponentLink2URL: https://www.digikey.com/en/products/detail/yageo/RC0201FR-0716RL/5280301; ComponentLink3Description: LCSC link; ComponentLink3URL: https://lcsc.com/product-detail/Chip-Resistor-Surface-Mount_YAGEO-RC0201FR-0716RL_C295777.html?s_z=n_RC0201FR-0716RL; Value: 16 Ohm; Package: 0201 (0603 Metric); Tolerance: ±1%; Operating Temperature: -55°C ~ 125°C; Supplier 1: Digikey; Supplier Part Number 1: YAG2441CT-ND
footprint R0201
pins: 1, 2

## RC0201FR-0718KL
designator R?, comment 18 kOhm
RES 18K OHM 1% 1/20W 0201; Manufacturer: Yageo; Part Number: RC0201FR-0718KL; Power (Watt): 0.05W; ComponentLink1Description: Datasheet; ComponentLink1URL: https://www.yageo.com/upload/media/product/products/datasheet/rchip/PYu-RC_Group_51_RoHS_L_12.pdf; ComponentLink2Description: Digikey link; ComponentLink2URL: https://www.digikey.com/en/products/detail/yageo/RC0201FR-0718KL/1948892; ComponentLink3Description: LCSC link; ComponentLink3URL: https://lcsc.com/product-detail/Chip-Resistor-Surface-Mount_YAGEO-RC0201FR-0718KL_C295780.html?s_z=n_RC0201FR-0718KL; Value: 18 kOhm; Package: 0201 (0603 Metric); Tolerance: ±1%; Operating Temperature: -55°C ~ 125°C; Supplier 1: Future Electronics; Supplier Part Number 1: 7402316
footprint R0201
pins: 1, 2

## RC0201FR-0718RL
designator R?, comment 18 Ohm
RES 18 OHM 1% 1/20W 0201; Manufacturer: Yageo; Part Number: RC0201FR-0718RL; Power (Watt): 0.05W; ComponentLink1Description: Datasheet; ComponentLink1URL: https://www.yageo.com/upload/media/product/products/datasheet/rchip/PYu-RC_Group_51_RoHS_L_12.pdf; ComponentLink2Description: Digikey link; ComponentLink2URL: https://www.digikey.com/en/products/detail/yageo/RC0201FR-0718RL/5280319; ComponentLink3Description: LCSC link; ComponentLink3URL: https://lcsc.com/product-detail/Chip-Resistor-Surface-Mount_YAGEO-RC0201FR-0718RL_C295781.html?s_z=n_RC0201FR-0718RL; Value: 18 Ohm; Package: 0201 (0603 Metric); Tolerance: ±1%; Operating Temperature: -55°C ~ 125°C; Supplier 1: Future Electronics; Supplier Part Number 1: 6061389
footprint R0201
pins: 1, 2

## RC0201FR-0720KL
designator R?, comment 20 kOhm
RES 20K OHM 1% 1/20W 0201; Manufacturer: Yageo; Part Number: RC0201FR-0720KL; Power (Watt): 0.05W; ComponentLink1Description: Datasheet; ComponentLink1URL: https://www.yageo.com/upload/media/product/products/datasheet/rchip/PYu-RC_Group_51_RoHS_L_12.pdf; ComponentLink2Description: Digikey link; ComponentLink2URL: https://www.digikey.com/en/products/detail/yageo/RC0201FR-0720KL/3202392; ComponentLink3Description: LCSC link; ComponentLink3URL: https://lcsc.com/product-detail/Chip-Resistor-Surface-Mount_YAGEO-RC0201FR-0720KL_C295787.html?s_z=n_RC0201FR-0720KL; Value: 20 kOhm; Package: 0201 (0603 Metric); Tolerance: ±1%; Operating Temperature: -55°C ~ 125°C; Supplier 1: Future Electronics; Supplier Part Number 1: 1061256
footprint R0201
pins: 1, 2

## RC0201FR-0720RL
designator R?, comment 20 Ohm
RES 20 OHM 1% 1/20W 0201; Manufacturer: Yageo; Part Number: RC0201FR-0720RL; Power (Watt): 0.05W; ComponentLink1Description: Datasheet; ComponentLink1URL: https://www.yageo.com/upload/media/product/products/datasheet/rchip/PYu-RC_Group_51_RoHS_L_12.pdf; ComponentLink2Description: Digikey link; ComponentLink2URL: https://www.digikey.com/en/products/detail/yageo/RC0201FR-0720RL/5280360; ComponentLink3Description: LCSC link; ComponentLink3URL: https://lcsc.com/product-detail/Chip-Resistor-Surface-Mount_YAGEO-RC0201FR-0720RL_C155742.html?s_z=n_RC0201FR-0720RL; Value: 20 Ohm; Package: 0201 (0603 Metric); Tolerance: ±1%; Operating Temperature: -55°C ~ 125°C; Supplier 1: Digikey; Supplier Part Number 1: YAG2500CT-ND
footprint R0201
pins: 1, 2

## RC0201FR-0722KL
designator R?, comment 22 kOhm
RES 22K OHM 1% 1/20W 0201; Manufacturer: Yageo; Part Number: RC0201FR-0722KL; Power (Watt): 0.05W; ComponentLink1Description: Datasheet; ComponentLink1URL: https://www.yageo.com/upload/media/product/products/datasheet/rchip/PYu-RC_Group_51_RoHS_L_12.pdf; ComponentLink2Description: Digikey link; ComponentLink2URL: https://www.digikey.com/en/products/detail/yageo/RC0201FR-0722KL/3202394; ComponentLink3Description: LCSC link; ComponentLink3URL: https://lcsc.com/product-detail/Chip-Resistor-Surface-Mount_YAGEO-RC0201FR-0722KL_C474416.html?s_z=n_RC0201FR-0722KL; Value: 22 kOhm; Package: 0201 (0603 Metric); Tolerance: ±1%; Operating Temperature: -55°C ~ 125°C; Supplier 1: Future Electronics; Supplier Part Number 1: 9622911
footprint R0201
pins: 1, 2

## RC0201FR-0724KL
designator R?, comment 24 kOhm
RES 24K OHM 1% 1/20W 0201; Manufacturer: Yageo; Part Number: RC0201FR-0724KL; Power (Watt): 0.05W; ComponentLink1Description: Datasheet; ComponentLink1URL: https://www.yageo.com/upload/media/product/products/datasheet/rchip/PYu-RC_Group_51_RoHS_L_12.pdf; ComponentLink2Description: Digikey link; ComponentLink2URL: https://www.digikey.com/en/products/detail/yageo/RC0201FR-0724KL/3202397; ComponentLink3Description: LCSC link; ComponentLink3URL: https://lcsc.com/product-detail/Chip-Resistor-Surface-Mount_YAGEO-RC0201FR-0724KL_C273277.html?s_z=n_RC0201FR-0724KL; Value: 24 kOhm; Package: 0201 (0603 Metric); Tolerance: ±1%; Operating Temperature: -55°C ~ 125°C; Supplier 1: Digikey; Supplier Part Number 1: YAG2336CT-ND
footprint R0201
pins: 1, 2

## RC0201FR-0724RL
designator R?, comment 24 Ohm
RES 24 OHM 1% 1/20W 0201; Manufacturer: Yageo; Part Number: RC0201FR-0724RL; Power (Watt): 0.05W; ComponentLink1Description: Datasheet; ComponentLink1URL: https://www.yageo.com/upload/media/product/products/datasheet/rchip/PYu-RC_Group_51_RoHS_L_12.pdf; ComponentLink2Description: Digikey link; ComponentLink2URL: https://www.digikey.com/en/products/detail/yageo/RC0201FR-0724RL/5280395; ComponentLink3Description: LCSC link; ComponentLink3URL: https://lcsc.com/product-detail/Chip-Resistor-Surface-Mount_YAGEO-RC0201FR-0724RL_C295792.html?s_z=n_RC0201FR-0724RL; Value: 24 Ohm; Package: 0201 (0603 Metric); Tolerance: ±1%; Operating Temperature: -55°C ~ 125°C; Supplier 1: Digikey; Supplier Part Number 1: YAG2535CT-ND
footprint R0201
pins: 1, 2

## RC0201FR-0727KL
designator R?, comment 27 kOhm
RES 27K OHM 1% 1/20W 0201; Manufacturer: Yageo; Part Number: RC0201FR-0727KL; Power (Watt): 0.05W; ComponentLink1Description: Datasheet; ComponentLink1URL: https://www.yageo.com/upload/media/product/products/datasheet/rchip/PYu-RC_Group_51_RoHS_L_12.pdf; ComponentLink2Description: Digikey link; ComponentLink2URL: https://www.digikey.com/en/products/detail/yageo/RC0201FR-0727KL/5280412; ComponentLink3Description: LCSC link; ComponentLink3URL: https://lcsc.com/product-detail/Chip-Resistor-Surface-Mount_YAGEO-RC0201FR-0727KL_C273283.html?s_z=n_RC0201FR-0727KL; Value: 27 kOhm; Package: 0201 (0603 Metric); Tolerance: ±1%; Operating Temperature: -55°C ~ 125°C; Supplier 1: Digikey; Supplier Part Number 1: YAG2552CT-ND
footprint R0201
pins: 1, 2

## RC0201FR-0727RL
designator R?, comment 27 Ohm
RES 27 OHM 1% 1/20W 0201; Manufacturer: Yageo; Part Number: RC0201FR-0727RL; ComponentLink1Description: Datasheet; ComponentLink1URL: https://www.yageo.com/upload/media/product/products/datasheet/rchip/PYu-RC_Group_51_RoHS_L_12.pdf; ComponentLink2Description: Digikey link; ComponentLink2URL: https://www.digikey.com/en/products/detail/yageo/RC0201FR-0727RL/5280414; ComponentLink3Description: LCSC link; ComponentLink3URL: https://lcsc.com/product-detail/Chip-Resistor-Surface-Mount_YAGEO-RC0201FR-0727RL_C273268.html?s_z=n_RC0201FR-0727RL; Value: 27 Ohm; Package: 0201 (0603 Metric); Tolerance: ±1%; Operating Temperature: -55°C ~ 125°C; Power (Watt): *; Supplier 1: Digikey; Supplier Part Number 1: YAG2554CT-ND
footprint R0201
pins: 1, 2

## RC0201FR-0730KL
designator R?, comment 30 kOhm
RES 30K OHM 1% 1/20W 0201; Manufacturer: Yageo; Part Number: RC0201FR-0730KL; Power (Watt): 0.05W; ComponentLink1Description: Datasheet; ComponentLink1URL: https://www.yageo.com/upload/media/product/products/datasheet/rchip/PYu-RC_Group_51_RoHS_L_12.pdf; ComponentLink2Description: Digikey link; ComponentLink2URL: https://www.digikey.com/en/products/detail/yageo/RC0201FR-0730KL/3202402; ComponentLink3Description: LCSC link; ComponentLink3URL: https://lcsc.com/product-detail/Chip-Resistor-Surface-Mount_YAGEO-RC0201FR-0730KL_C138153.html?s_z=n_RC0201FR-0730KL; Value: 30 kOhm; Package: 0201 (0603 Metric); Tolerance: ±1%; Operating Temperature: -55°C ~ 125°C; Supplier 1: Digikey; Supplier Part Number 1: YAG2281CT-ND
footprint R0201
pins: 1, 2

## RC0201FR-0730RL
designator R?, comment 30 Ohm
RES 30 OHM 1% 1/20W 0201; Manufacturer: Yageo; Part Number: RC0201FR-0730RL; Power (Watt): 0.05W; ComponentLink1Description: Datasheet; ComponentLink1URL: https://www.yageo.com/upload/media/product/products/datasheet/rchip/PYu-RC_Group_51_RoHS_L_12.pdf; ComponentLink2Description: Digikey link; ComponentLink2URL: https://www.digikey.com/en/products/detail/yageo/RC0201FR-0730RL/5280454; ComponentLink3Description: LCSC link; ComponentLink3URL: https://lcsc.com/product-detail/Chip-Resistor-Surface-Mount_YAGEO-RC0201FR-0730RL_C273286.html?s_z=n_RC0201FR-0730RL; Value: 30 Ohm; Package: 0201 (0603 Metric); Tolerance: ±1%; Operating Temperature: -55°C ~ 125°C; Supplier 1: Digikey; Supplier Part Number 1: YAG2594CT-ND
footprint R0201
pins: 1, 2

## RC0201FR-0733KL
designator R?, comment 33 kOhm
RES 33K OHM 1% 1/20W 0201; Manufacturer: Yageo; Part Number: RC0201FR-0733KL; Power (Watt): 0.05W; ComponentLink1Description: Datasheet; ComponentLink1URL: https://www.yageo.com/upload/media/product/products/datasheet/rchip/PYu-RC_Group_51_RoHS_L_12.pdf; ComponentLink2Description: Digikey link; ComponentLink2URL: https://www.digikey.com/en/products/detail/yageo/RC0201FR-0733KL/3202403; ComponentLink3Description: LCSC link; ComponentLink3URL: https://lcsc.com/product-detail/Chip-Resistor-Surface-Mount_YAGEO-RC0201FR-0733KL_C155694.html?s_z=n_RC0201FR-0733KL; Value: 33 kOhm; Package: 0201 (0603 Metric); Tolerance: ±1%; Operating Temperature: -55°C ~ 125°C; Supplier 1: Future Electronics; Supplier Part Number 1: 7212327
footprint R0201
pins: 1, 2

## RC0201FR-0733RL
designator R?, comment 33 Ohm
RES 33 OHM 1% 1/20W 0201; Manufacturer: Yageo; Part Number: RC0201FR-0733RL; Power (Watt): 0.05W; ComponentLink1Description: Datasheet; ComponentLink1URL: https://www.yageo.com/upload/media/product/products/datasheet/rchip/PYu-RC_Group_51_RoHS_L_12.pdf; ComponentLink2Description: Digikey link; ComponentLink2URL: https://www.digikey.com/en/products/detail/yageo/RC0201FR-0733RL/1948893; ComponentLink3Description: LCSC link; ComponentLink3URL: https://lcsc.com/product-detail/Chip-Resistor-Surface-Mount_YAGEO-RC0201FR-0733RL_C295794.html?s_z=n_RC0201FR-0733RL; Value: 33 Ohm; Package: 0201 (0603 Metric); Tolerance: ±1%; Operating Temperature: -55°C ~ 125°C; Supplier 1: Future Electronics; Supplier Part Number 1: 6199285
footprint R0201
pins: 1, 2

## RC0201FR-0736KL
designator R?, comment 36 kOhm
RES 36K OHM 1% 1/20W 0201; Manufacturer: Yageo; Part Number: RC0201FR-0736KL; Power (Watt): 0.05W; ComponentLink1Description: Datasheet; ComponentLink1URL: https://www.yageo.com/upload/media/product/products/datasheet/rchip/PYu-RC_Group_51_RoHS_L_12.pdf; ComponentLink2Description: Digikey link; ComponentLink2URL: https://www.digikey.com/en/products/detail/yageo/RC0201FR-0736KL/5280486; ComponentLink3Description: LCSC link; ComponentLink3URL: https://lcsc.com/product-detail/Chip-Resistor-Surface-Mount_YAGEO-RC0201FR-0736KL_C295796.html?s_z=n_RC0201FR-0736KL; Value: 36 kOhm; Package: 0201 (0603 Metric); Tolerance: ±1%; Operating Temperature: -55°C ~ 125°C; Supplier 1: Digikey; Supplier Part Number 1: YAG2626CT-ND
footprint R0201
pins: 1, 2

## RC0201FR-0736RL
designator R?, comment 36 Ohm
RES 36 OHM 1% 1/20W 0201; Manufacturer: Yageo; Part Number: RC0201FR-0736RL; Power (Watt): 0.05W; ComponentLink1Description: Datasheet; ComponentLink1URL: https://www.yageo.com/upload/media/product/products/datasheet/rchip/PYu-RC_Group_51_RoHS_L_12.pdf; ComponentLink2Description: Digikey link; ComponentLink2URL: https://www.digikey.com/en/products/detail/yageo/RC0201FR-0736RL/5280488; ComponentLink3Description: LCSC link; ComponentLink3URL: https://lcsc.com/product-detail/Chip-Resistor-Surface-Mount_YAGEO-RC0201FR-0736RL_C274347.html?s_z=n_RC0201FR-0736RL; Value: 36 Ohm; Package: 0201 (0603 Metric); Tolerance: ±1%; Operating Temperature: -55°C ~ 125°C; Supplier 1: Future Electronics; Supplier Part Number 1: 2103431
footprint R0201
pins: 1, 2